# EAGLE library part IRF7701 (library X893)
http://www.terraelectronica.ru/pdf/IR/IRF7701.pdf D-1,5,8 S-2,3,6,7 4-G
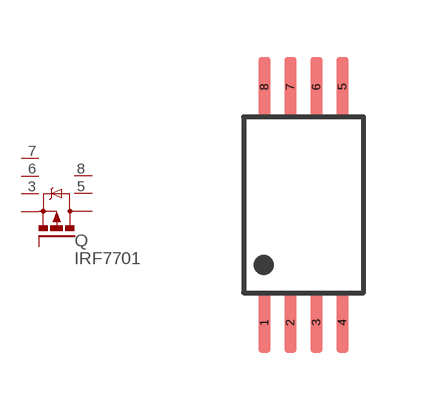
[diagram p40: symbol with the pads of TSSOP8; footprint TSSOP8]

Designator prefix Q

## IRF7701  [TSSOP8]
1  D  pas
2  S  pas
3  S  pas
4  G  pas
5  D  pas
6  S  pas
7  S  pas
8  D  pas

## Footprint TSSOP8 (pad centres in mm)
smd 0.3 x 1.5: 1 -0.975,-2.95; 2 -0.325,-2.95; 3 0.325,-2.95; 4 0.975,-2.95; 5 0.975,2.95; 6 0.325,2.95; 7 -0.325,2.95; 8 -0.975,2.95